# Altium footprint library AltTab_PCB_Chip.PcbLib: 105 footprints (part 5 of 7)
Each footprint in its own frame and in the unit in brackets; x right, y up, seen from the top. Pads: shape width x height; smd on the part's side, far side on the other; paste and mask are expansions set on the pad; w line width, h text height; cw(c..) or ccw(c..) is an arc to the next point about the centre after c.
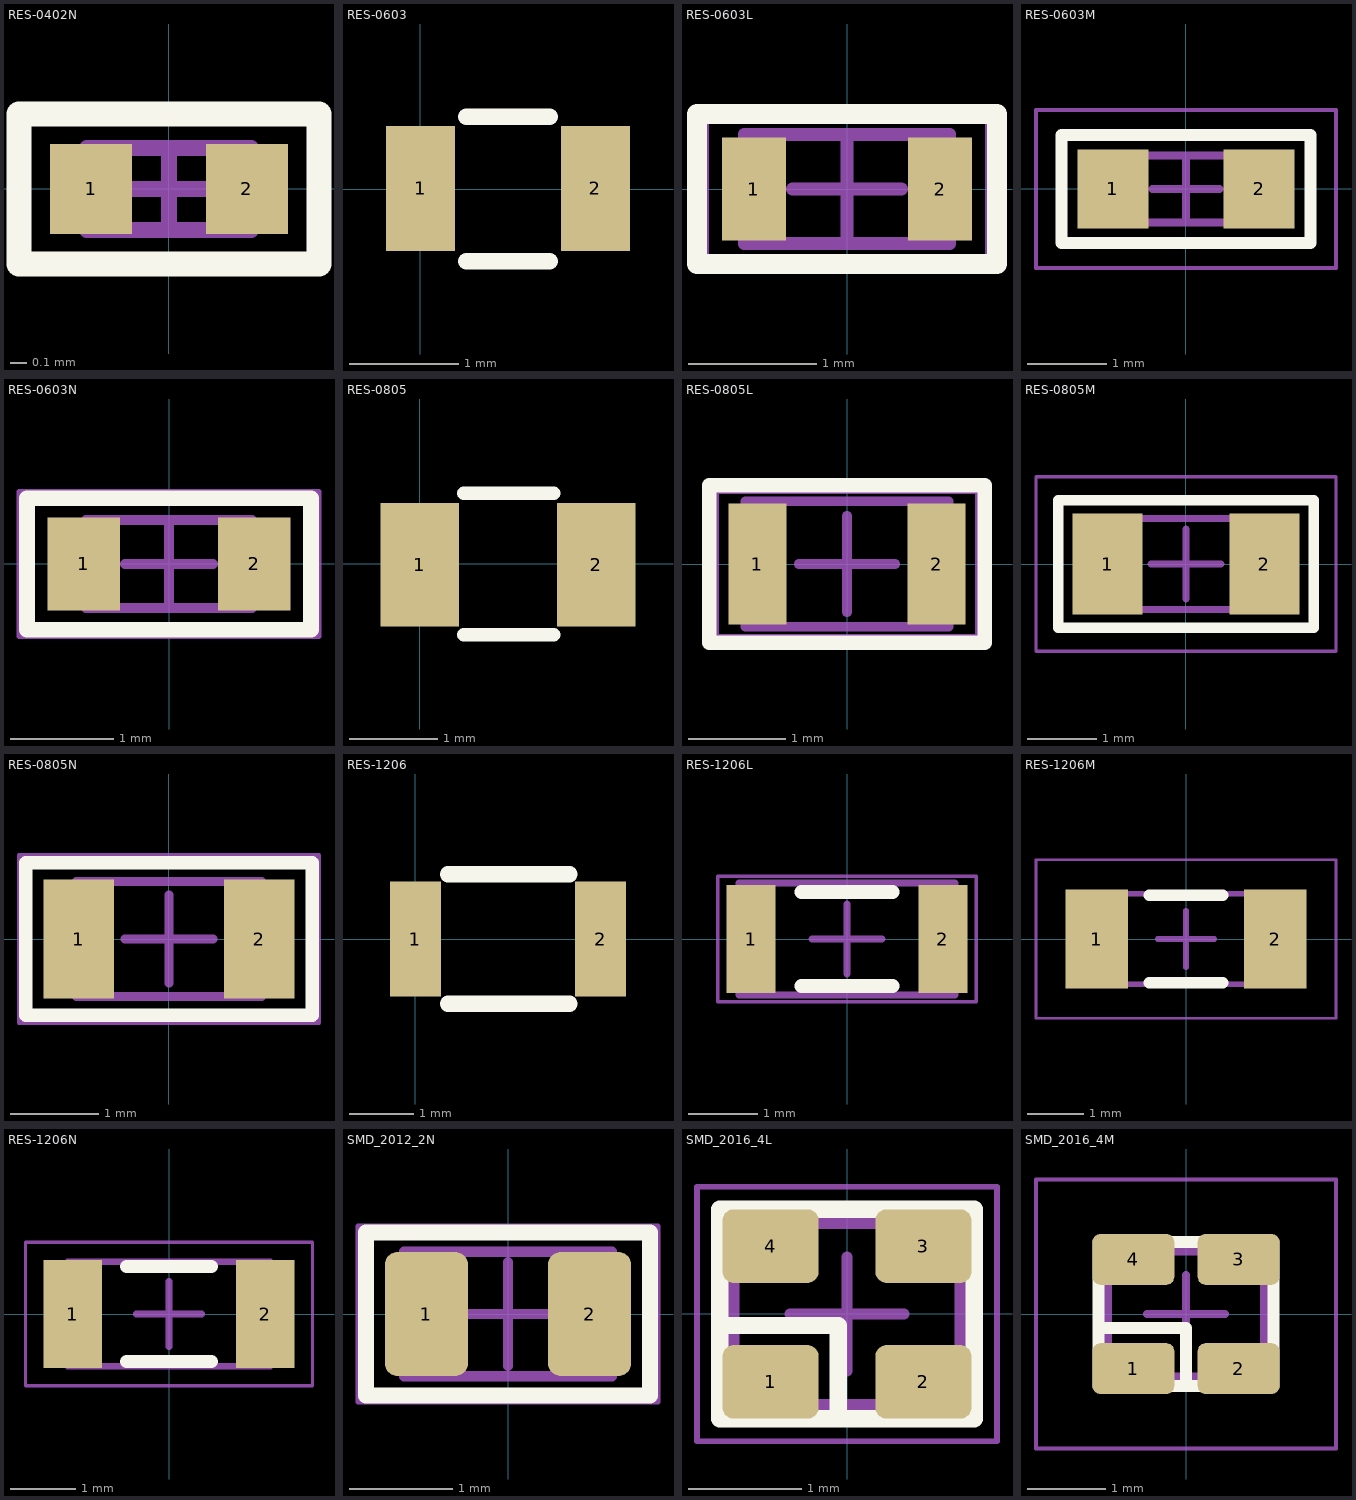
[diagram p4: the footprints below, top view; thin cyan lines are the x and y axes]

## RES-0402N [mm] "Chip Resistor, 2-Leads, Body 1,00x0,50mm, IPC Medium Density"
height 0.35
pads (2):
  rect 0.5x0.55 smd: 1(-0.475,0) 2(0.475,0)
Top Overlay:
  lines w0.152: -0.914,-0.457 -0.914,0.457 0.914,0.457 0.914,-0.457 -0.914,-0.457
Assembly Top:
  lines w0.1: -0.5,-0.25 -0.5,0.25 0.5,0.25 0.5,-0.25 -0.5,-0.25
Courtyard Top:
  lines w0.05: -0.9,-0.45 -0.9,0.45 0.9,0.45 0.9,-0.45 -0.9,-0.45
  lines w0.1: -0.25,0 0.25,0 ; 0,-0.25 0,0.25
3D body "RESC1005X04N.step": height 0.35, standoff 0, extent -0.5,-0.25 0.5,0.25

## RES-0603 [mil]
pads (2):
  rect 25x45 smd mask+1.97: 1(0,0.25) 2(63,0.25)
Top Overlay:
  lines w6: 16.5,-26 46.5,-26 ; 16.5,26 46.5,26
3D body "RES 0603.step": height 17.72, standoff 0, extent 0.01,-16.14 63,16.14

## RES-0603L [mm] "Chip Resistor, 2-Leads, Body 1,60x0,85mm, IPC High Density"
height 0.45
pads (2):
  rect 0.5x0.8 smd: 1(-0.725,0) 2(0.725,0)
Top Overlay:
  lines w0.152: -1.168,-0.584 -1.168,-0.559 -1.168,0.584 1.168,0.584 1.168,-0.584 -1.143,-0.584
Assembly Top:
  lines w0.1: -0.8,-0.425 0.8,-0.425 0.8,0.425 -0.8,0.425 -0.8,-0.425
Courtyard Top:
  lines w0.05: -1.1,-0.55 1.1,-0.55 1.1,0.55 -1.1,0.55 -1.1,-0.55
  lines w0.1: -0.425,0 0.425,0 ; 0,-0.425 0,0.425
3D body "RESC1608X04L.step": height 0.45, standoff 0, extent -0.8,-0.425 0.8,0.425

## RES-0603M [mm] "Chip Resistor, 2-Leads, Body 1,60x0,85mm, IPC Low Density"
height 0.45
pads (2):
  rect 0.9x1 smd: 1(-0.925,0) 2(0.925,0)
Top Overlay:
  lines w0.152: -1.575,-0.381 -1.575,-0.686 -1.245,-0.686 ; -1.575,-0.66 -1.549,-0.686 1.575,-0.686 1.575,0.686 -1.575,0.686 -1.575,-0.66
Assembly Top:
  lines w0.1: -0.8,-0.425 -0.8,0.425 0.8,0.425 0.8,-0.425 -0.8,-0.425
Courtyard Top:
  lines w0.05: -1.9,-1 -1.9,1 1.9,1 1.9,-1 -1.9,-1
  lines w0.1: -0.425,0 0.425,0 ; 0,-0.425 0,0.425
3D body "RESC1608X04M.step": height 0.45, standoff 0, extent -0.8,-0.425 0.8,0.425

## RES-0603N [mm] "Chip Resistor, 2-Leads, Body 1,60x0,85mm, IPC Medium Density"
height 0.45
pads (2):
  rect 0.7x0.9 smd: 1(-0.825,0) 2(0.825,0)
Top Overlay:
  lines w0.152: -1.372,-0.635 -1.372,0.635 1.372,0.635 1.372,-0.635 -1.346,-0.635
Assembly Top:
  lines w0.1: -0.8,-0.425 0.8,-0.425 0.8,0.425 -0.8,0.425 -0.8,-0.425
Courtyard Top:
  lines w0.05: -1.45,-0.7 1.45,-0.7 1.45,0.7 -1.45,0.7 -1.45,-0.7
  lines w0.1: -0.425,0 0.425,0 ; 0,-0.425 0,0.425
3D body "RESC1608X04N.step": height 0.45, standoff 0, extent -0.8,-0.425 0.8,0.425

## RES-0805 [mil]
pads (2):
  rect 35x55 smd mask+1.97: 1(0,-0.39) 2(78.74,-0.39)
Top Overlay:
  lines w6: 19.74,-31.61 59.74,-31.61 ; 19.74,31.39 59.74,31.39
3D body "RES 0805.step": height 19.68, standoff 0, extent 0,-24.6 78.74,24.61

## RES-0805L [mm] "Chip Resistor, 2-Leads, Body 2,10x1,30mm, IPC High Density"
height 0.5
pads (2):
  rect 0.6x1.25 smd: 1(-0.925,0) 2(0.925,0)
Top Overlay:
  lines w0.152: -1.422,-0.813 -1.422,0.813 1.422,0.813 1.422,-0.813 -1.422,-0.813
Assembly Top:
  lines w0.1: -1.05,-0.65 -1.05,0.65 1.05,0.65 1.05,-0.65 -1.05,-0.65
Courtyard Top:
  lines w0.05: -1.35,-0.75 -1.35,0.75 1.35,0.75 1.35,-0.75 -1.35,-0.75
  lines w0.1: -0.5,0 0.5,0 ; 0,-0.5 0,0.5
3D body "RESC2113X05L.step": height 0.5, standoff 0, extent -1.05,-0.65 1.05,0.65

## RES-0805M [mm] "Chip Resistor, 2-Leads, Body 2,10x1,30mm, IPC Low Density"
height 0.5
pads (2):
  rect 1x1.45 smd: 1(-1.125,0) 2(1.125,0)
Top Overlay:
  lines w0.152: -1.803,-0.914 1.829,-0.914 1.829,0.914 -1.803,0.914 -1.829,0.914 -1.829,0.102 -1.829,-0.914 -1.245,-0.914
Assembly Top:
  lines w0.1: -1.05,-0.65 -1.05,0.65 1.05,0.65 1.05,-0.65 -1.05,-0.65
Courtyard Top:
  lines w0.05: -2.15,-1.25 -2.15,1.25 2.15,1.25 2.15,-1.25 -2.15,-1.25
  lines w0.1: -0.5,0 0.5,0 ; 0,-0.5 0,0.5
3D body "RESC2113X05M.step": height 0.5, standoff 0, extent -1.05,-0.65 1.05,0.65

## RES-0805N [mm] "Chip Resistor, 2-Leads, Body 2,10x1,30mm, IPC Medium Density"
height 0.5
pads (2):
  rect 0.8x1.35 smd: 1(-1.025,0) 2(1.025,0)
Top Overlay:
  lines w0.152: -1.6,-0.864 1.626,-0.864 1.626,0.864 -1.626,0.864 -1.626,-0.864 -1.549,-0.864
Assembly Top:
  lines w0.1: -1.05,-0.65 -1.05,0.65 1.05,0.65 1.05,-0.65 -1.05,-0.65
Courtyard Top:
  lines w0.05: -1.7,-0.95 -1.7,0.95 1.7,0.95 1.7,-0.95 -1.7,-0.95
  lines w0.1: -0.5,0 0.5,0 ; 0,-0.5 0,0.5
3D body "RESC2113X05N.step": height 0.5, standoff 0, extent -1.05,-0.65 1.05,0.65

## RES-1206 [mm]
pads (2):
  rect 0.8x1.8 smd mask+0.05: 1(0,0) 2(2.9,0)
Top Overlay:
  lines w0.254: 0.508,-1.016 2.413,-1.016 ; 0.508,1.016 2.413,1.016
3D body "RES 1206.step": height 0.57, standoff 0, extent -0.051,-0.711 3.049,0.841

## RES-1206L [mm] "Chip Resistor, 2-Leads, Body 3,10x1,60mm, IPC High Density"
height 0.55
pads (2):
  rect 0.7x1.55 smd: 1(-1.375,0) 2(1.375,0)
Top Overlay:
  lines w0.2: -0.65,-0.675 0.65,-0.675 ; -0.65,0.675 0.65,0.675
Assembly Top:
  lines w0.1: -1.55,-0.8 1.55,-0.8 1.55,0.8 -1.55,0.8 -1.55,-0.8
Courtyard Top:
  lines w0.05: -1.85,-0.9 1.85,-0.9 1.85,0.9 -1.85,0.9 -1.85,-0.9
  lines w0.1: -0.5,0 0.5,0 ; 0,-0.5 0,0.5
3D body "RESC3116X06L.step": height 0.55, standoff 0, extent -1.55,-0.8 1.55,0.8

## RES-1206M [mm] "Chip Resistor, 2-Leads, Body 3,10x1,60mm, IPC Low Density"
height 0.55
pads (2):
  rect 1.1x1.75 smd: 1(-1.575,0) 2(1.575,0)
Top Overlay:
  lines w0.2: -0.65,-0.775 0.65,-0.775 ; -0.65,0.775 0.65,0.775
Assembly Top:
  lines w0.1: -1.55,-0.8 -1.55,0.8 1.55,0.8 1.55,-0.8 -1.55,-0.8
Courtyard Top:
  lines w0.05: -2.65,-1.4 -2.65,1.4 2.65,1.4 2.65,-1.4 -2.65,-1.4
  lines w0.1: -0.5,0 0.5,0 ; 0,-0.5 0,0.5
3D body "RESC3116X06M.step": height 0.55, standoff 0, extent -1.55,-0.8 1.55,0.8

## RES-1206N [mm] "Chip Resistor, 2-Leads, Body 3,10x1,60mm, IPC Medium Density"
height 0.55
pads (2):
  rect 0.9x1.65 smd: 1(-1.475,0) 2(1.475,0)
Top Overlay:
  lines w0.2: -0.65,-0.725 0.65,-0.725 ; -0.65,0.725 0.65,0.725
Assembly Top:
  lines w0.1: -1.55,-0.8 1.55,-0.8 1.55,0.8 -1.55,0.8 -1.55,-0.8
Courtyard Top:
  lines w0.05: -2.2,-1.1 2.2,-1.1 2.2,1.1 -2.2,1.1 -2.2,-1.1
  lines w0.1: -0.5,0 0.5,0 ; 0,-0.5 0,0.5
3D body "RESC3116X06N.step": height 0.55, standoff 0, extent -1.55,-0.8 1.55,0.8

## SMD_2012_2N [mm] "DFN, 2-Leads, Body 1,20x2,00mm, Pitch 1,50mm, IPC Medium Density"
height 0.6
pads (2):
  rrect30% 0.8x1.2 smd: 1(-0.787,0) 2(0.787,0)
Top Overlay:
  lines w0.152: -0.762,-0.787 1.372,-0.787 1.372,-0.152 1.372,0.787 1.016,0.787 -1.372,0.787 -1.372,0.051 -1.372,-0.787 -0.711,-0.787
Assembly Top:
  lines w0.1: -1,-0.6 -1,0.6 1,0.6 1,-0.6 -1,-0.6
Courtyard Top:
  lines w0.05: -1.448,-0.85 -1.448,0.85 1.448,0.85 1.448,-0.85 -1.448,-0.85
  lines w0.1: -0.5,0 0.5,0 ; 0,-0.5 0,0.5
3D body: height 0.6, standoff 0.05, extent -1,-0.6 1,0.6

## SMD_2016_4L [mm] "QFN, 4-Leads, Body 2,00x1,60mm, Pitch 1,35mm/1,05mm, IPC High Density"
height 0.65
pads (4):
  rrect30% 0.85x0.65 smd: 1(-0.675,-0.6) 2(0.675,-0.6) 3(0.675,0.6) 4(-0.675,0.6)
Top Overlay:
  lines w0.152: -1.118,-0.102 -0.076,-0.102 -0.076,-0.925 1.125,-0.925 1.125,0.175 1.125,0.925 -0.1,0.925 -1.125,0.925 -1.125,-0.6 -1.125,-0.925 -0.075,-0.925
Assembly Top:
  lines w0.1: -1,-0.8 1,-0.8 1,0.8 -1,0.8 -1,-0.8
Courtyard Top:
  lines w0.05: -1.325,-1.125 1.325,-1.125 1.325,1.125 -1.325,1.125 -1.325,-1.125
  lines w0.1: -0.5,0 0.5,0 ; 0,-0.5 0,0.5
3D body: height 0.65, standoff 0, extent -1,-0.801 1,0.801

## SMD_2016_4M [mm] "QFN, 4-Leads, Body 2,00x1,60mm, Pitch 1,35mm/1,05mm, IPC Low Density"
height 0.65
pads (4):
  rrect30% 1.05x0.65 smd: 1(-0.675,-0.7) 2(0.675,-0.7) 3(0.675,0.7) 4(-0.675,0.7)
Top Overlay:
  lines w0.152: -1.092,-0.178 0,-0.178 0,-0.925 -1.125,-0.925 -1.125,-0.6 -1.125,0.925 -0.1,0.925 1.125,0.925 1.125,0.175 1.125,-0.925 -0.1,-0.925
Assembly Top:
  lines w0.1: -1,-0.8 -1,0.8 1,0.8 1,-0.8 -1,-0.8
Courtyard Top:
  lines w0.05: -1.925,-1.725 -1.925,1.725 1.925,1.725 1.925,-1.725 -1.925,-1.725
  lines w0.1: -0.5,0 0.5,0 ; 0,-0.5 0,0.5
3D body: height 0.65, standoff 0, extent -1,-0.801 1,0.801